# Altium integrated library Altium_CREATE_2026.IntLib: 26 symbols
Pins are listed as number, name and electrical type; pins without a type are passive.

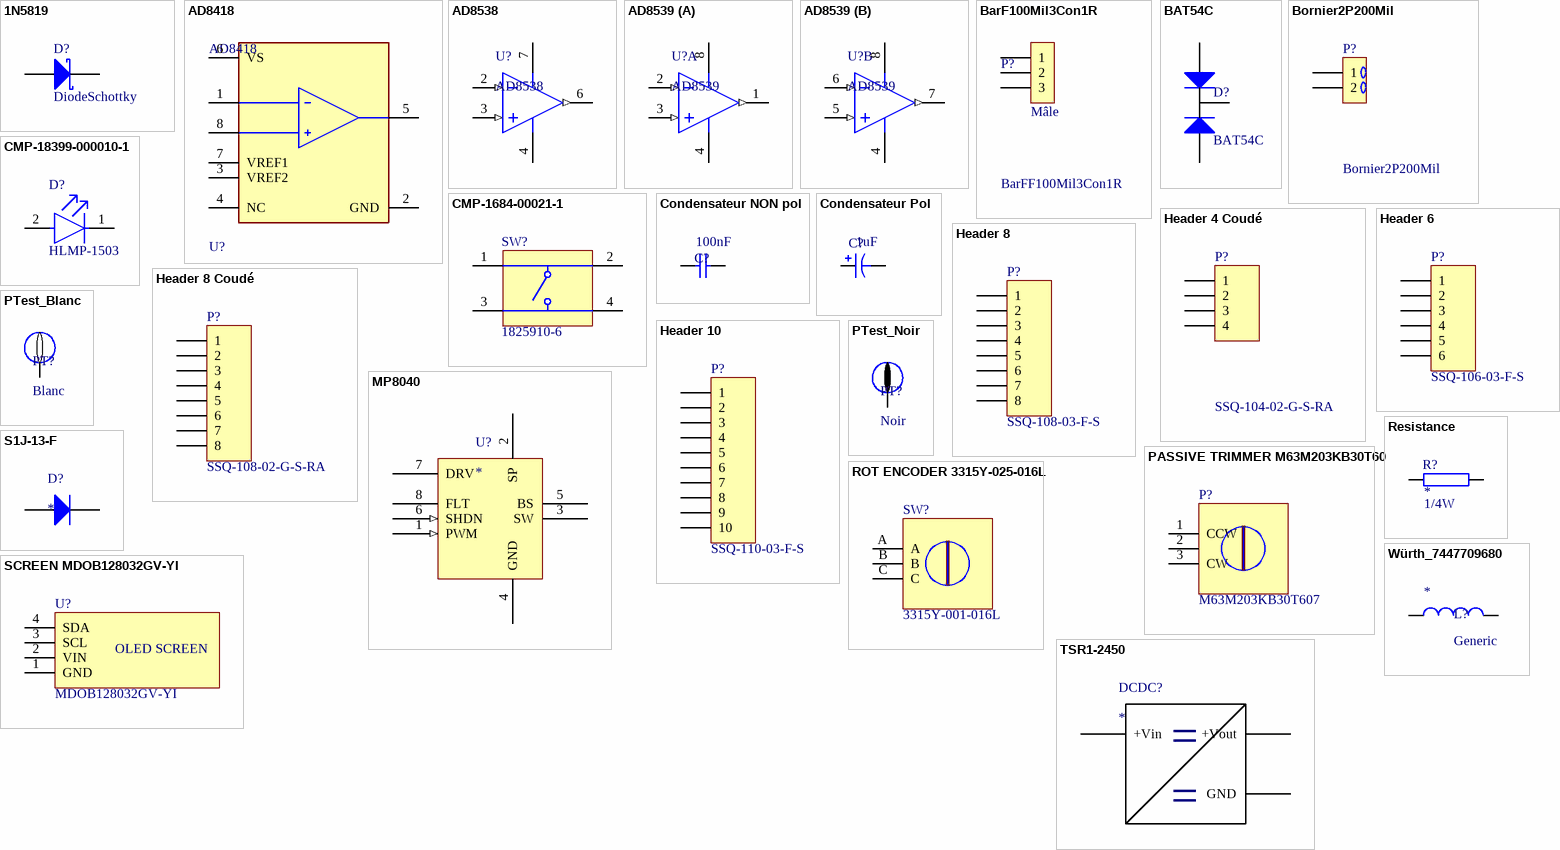
[diagram p0: symbols 1N5819 to Würth_7447709680]

## 1N5819
designator D?, comment DiodeSchottky
Low drop power Schottky rectifier; Published: 21-Mar-2003; LatestRevisionDate: 29-May-2009; LatestRevisionNote: IPC-7351 Footprint Added.; DatasheetVersion: Oct-1999; PackageVersion: Sep-2001; Publisher: Altium Limited
footprint DO-41 (Diode, Axial; Body 5.2 x 2.7 mm (LxDia. max), Lead Dia. 0.86 mm (max)); pin to pad 3>2
pins: 1 A, 3 K

## AD8418
designator U?
IC Current Sensor; Max Supply Voltage: 5.5V; Common Mode Rejection Ratio: 90dB; Min Dual Supply Voltage: 1.35V; Power Supply Rejection Ratio (PSRR): 80dB; Slew Rate: 1V/µs; Max Dual Supply Voltage: 2.75V; Operating Supply Current: 4.1mA; Min Supply Voltage: 2.7V; Input Bias Current: 130uA; Input Offset Voltage (Vos): 200uV; Number of Circuits: 1; -3db Bandwidth: 250kHz; Input Capacitance: 2pF; Max Operating Temperature: 125°C; Lead Free: Contains Lead; Case/Package: SOIC; Mount: Surface Mount; Min Operating Temperature: -40°C; Packaging: Rail/Tube; RoHS Compliant: Yes; Number of Pins: 8; Contact Plating: Tin
footprint SOIC-8-150 (SOIC 8)
pins: 1 -IN (hiz), 2 GND (power), 3 VREF2 (power), 4 NC, 5 OUT, 6 VS (power), 7 VREF1 (power), 8 +IN (hiz)

## AD8538
designator U?
Op Amp Single Precision Amplifier R-R I/O ±2.5V/5V 8-Pin SOIC N Tube; Generic Part Number: AD8539; Manufacturer: Analog Devices; PartNumber: AD8539ARZ-REEL; V Span Min: 2.7V; V Span Max: 5.5V; Input Offset Voltage: 5uV; Iq/Amp: 210uA; Amplifiers Per Package: 2; Slew Rate: 400mV/us; Small Signal Bandwidth: 430KHz; Input Bias Current: 15pA; PackageReference: R-8; ComponentLink3URL: http://www.analog.com/static/imported-files/packages/PKG_PDF/SOIC_Narrow%20(R)/R_8.pdf; PackageVersion: 060506-A; ComponentLink1Description: Manufacturer URL; Code_JEDEC: MS-012-AA; ComponentLink3Description: Package Specification; DatasheetVersion: Rev. A; PackageDescription: 8-Pin Standard Small Outline Package, Body 3.9 x 4.9 mm, Pitch 1.27 mm; ComponentLink2URL: http://www.analog.com/static/imported-files/data_sheets/AD8538_8539.pdf; ComponentLink2Description: Datasheet; ComponentLink1URL: http://www.analog.com/en/index.html; Mounting Technology: Surface Mount
footprint SOIC-8-150 (SOIC 8)
pins: 2 -IN (in), 3 +IN (in), 4 -V (power), 6 OUT (out), 7 +V (power)

## AD8539
designator U?
Double Channel Single-Supply Operation Operational Amplifier, 430 KHz BW, 400 mV/us SR, Industrial, 8-pin SOIC (R-8), Reel; Manufacturer: Analog Devices; PartNumber: AD8539ARZ-REEL; V Span Min: 2.7V; V Span Max: 5.5V; Input Offset Voltage: 5uV; Iq/Amp: 210uA; Amplifiers Per Package: 2; Small Signal Bandwidth: 430KHz; Input Bias Current: 15pA; PackageReference: R-8; ComponentLink3URL: http://www.analog.com/static/imported-files/packages/PKG_PDF/SOIC_Narrow%20(R)/R_8.pdf; PackageVersion: 060506-A; ComponentLink1Description: Manufacturer URL; Code_JEDEC: MS-012-AA; Generic Part Number: AD8539; ComponentLink3Description: Package Specification; DatasheetVersion: Rev. A; PackageDescription: 8-Pin Standard Small Outline Package, Body 3.9 x 4.9 mm, Pitch 1.27 mm; ComponentLink2URL: http://www.analog.com/static/imported-files/data_sheets/AD8538_8539.pdf; Slew Rate: 400mV/us; ComponentLink2Description: Datasheet; ComponentLink1URL: http://www.analog.com/en/index.html; Mounting Technology: Surface Mount
footprint SOIC-8-150 (SOIC 8)
pins on every part: 4 -V (power), 8 +V (power)
part A pins: 1 OUT A (out), 2 -IN A (in), 3 +IN A (in)
part B pins: 5 +IN B (in), 6 -IN B (in), 7 OUT B (out)

## BarF100Mil3Con1R
designator P?, comment BarFF100Mil3Con1R
Barrette femelle 100mil 3 PIN 1 rangée; LatestRevisionDate: 17-Jul-2002; LatestRevisionNote: Re-released for DXP Platform.; Publisher: Altium Limited
signal-integrity model Connector
footprint 3PINF100 (Connector; Header; 3 Position)
pins: 1, 2, 3
text: Mâle

## BAT54C
designator D?
Double Small signal Schottky diodes
footprint SOT-23-3 (SOT23, 6-Leads, Body 2.9x1.7mm, Pitch 0.95mm, Lead Span 2.8mm, IPC Medium Density)
pins: 1 A1, 2 A2, 3 K

## Bornier2P200Mil
designator P?
Bornier 2P 200mil; LatestRevisionDate: 17-Jul-2002; LatestRevisionNote: Re-released for DXP Platform.; Publisher: Altium Limited; Supplier 1: Farnell; Supplier Part Number 1: 2396250
footprint BORN2PIN200MIL (Bornier; Header; 2 Position)
pins: 1, 2

## CMP-1684-00021-1
designator SW?, comment 1825910-6
SWITCH TACTILE SPST-NO 0.05A 24V; Manufacturer: TE Connectivity; Maximum Contact Resistance: 100mOhm; Mechanical Life: 100000Cycles; Bushing Type: Unthreaded; Switch Configuration: OFF(ON); Contact Rating @ Voltage: 0.05A@24VDC; Actuator Color: Black; Body Orientation: Straight; Function: MomentaryContact; Illumination: N/R; Actuator Style: RoundButton; Actuator Material: PolybutyleneTerephthalate; Dielectric Strength: 500VAC; Pole Throw Configuration: SPST; Actuator Length: 1.4mm; Product Weight: N/A; Contact Material: CopperAlloy; Housing Material: N/A; Terminal Type: PCPins; Minimum Insulation Resistance: 100MOhm; Maximum DC Voltage Rating: 24V; Package Description: 4-Pin Through Hole Device, Body 5.99 x 5.99 mm, Pitch 6.5 mm; Part No: 1825910-6; Package Reference: THD; Base Material: N/A; Manufacturer URL: http://www.te.com; Contact Plating: Silver; RoHS: Yes; Datasheet Version: Rev. C9; Electrical Life: 100000Cycles; Maximum AC Voltage Rating: N/A; Thread Size: N/R; Operating Temperature: -35to85C; Mounting: ThroughHole; Dimension: 5.99x5mm; Datasheet URL: http://www.te.com/commerce/DocumentDelivery/DDEController?Action=showdoc&DocId=Customer+Drawing%7F1825910%7FC9%7Fpdf%7FEnglish%7FENG_CD_1825910_C9.pdf%7F1825910-6; Family: 1825910; Seal Location: N/A; Seal Description: N/A; Packaging: N/A
footprint TECO-1825910-6_V
pins: 1, 2, 3, 4

## CMP-18399-000010-1
designator D?, comment HLMP-1503
LED GREEN DIFFUSED T-1 T/H; Manufacturer: Broadcom; Reverse Voltage: 5V; Wavelength: 569nm; Forward Voltage: 2.1V; Led Orientation: Straight; Viewing Angle: 60°; Max Junction Temp: +110°C; Peak Emmision Wavelength: 565nm; Luminous Intensity: 1mcd; Standoff Height: 0.88mm; Forward Current: 10mA; Mouser Description: LED; Green; 1mcd; 0.115In.Dia.; T-1; 565nm; 25mA; 2.1V; 5V; GaP; -20degC; 100deg; ComponentLink2Description: Datasheet; Digikey Description: LED GREEN DIFFUSED T-1 T/H; Device Class L1: Optoelectronics; Device Class L3: unset; Automotive: No; Device Class L2: LEDs; Manufacturer Part Number: HLMP-1503; Category: Diode; Temperature Range Low: -20°C; Height: 6.35mm; RoHS: TRUE; Octopart: https://octopart.com/hlmp-1503-broadcom-71130371; Temperature: -20°C to +100°C; Lead Free: Yes; ComponentLink2URL: https://docs.broadcom.com/docs/AV02-1555EN; Package: HLMP-1503; Colour: Green; Temperature Range High: +100°C
footprint FP-HLMP-1503-MFG
pins: 1 C, 2 A

## Condensateur NON pol
designator C?  value 100nF  (hidden comment: Condensateur NON pol)
Published: 8-Jun-2000; LatestRevisionDate: 29-May-2009; LatestRevisionNote: IPC-7351 Footprint Added.; PackageReference: C1206; Publisher: Altium Limited; PackageDescription: Chip Capacitor
footprint 1206_C
footprint CAPRAD09
footprint CAPRAD06
footprint CAPRAD02
footprint CAPRAD6.4Disq11.7
footprint 0603_C
footprint CAPRADP200l100
footprint CAPDISQ5.08
pins: 1, 2

## Condensateur Pol
designator C?  value 1uF  (hidden comment: Condensateur Pol)
Published: 8-Jun-2000; LatestRevisionDate: 17-Jul-2002; LatestRevisionNote: Re-released for DXP Platform.; PackageReference: POLAR0.8; Publisher: Altium Limited; PackageDescription: Polarized Capacitor; 2 Leads
footprint CAPRAD6.3diax12 (Condensateur polarisé diamètre 6.3mm hauteur 12mm)
footprint CAPRAD10diax9.5 (Condensateur polarisé diamètre 10mm hauteur 9.5mm)
pins: 1, 2
1 alternate drawing of the same symbol

## Header 4 Coudé
designator P?, comment SSQ-104-02-G-S-RA
Header 4 Coudé; LatestRevisionDate: 17-Jul-2002; LatestRevisionNote: Re-released for DXP Platform.; Publisher: Altium Limited
footprint ARDUINO HDR1X4 - Coudé
pins: 1, 2, 3, 4

## Header 6
designator P?, comment SSQ-106-03-F-S
CONN RCPT 6POS 0.1 GOLD PCB; LatestRevisionDate: 17-Jul-2002; LatestRevisionNote: Re-released for DXP Platform.; Publisher: Altium Limited
footprint HDR1X6 (Connector; Header; 6 Position)
signal-integrity model Connector
footprint ARDUINO HDR1X6
pins: 1, 2, 3, 4, 5, 6

## Header 8
designator P?, comment SSQ-108-03-F-S
CONN RCPT 8POS 0.1 GOLD PCB; LatestRevisionDate: 17-Jul-2002; LatestRevisionNote: Re-released for DXP Platform.; Publisher: Altium Limited
footprint HDR1X8 (Connector; Header; 8 Position)
signal-integrity model Connector
footprint ARDUINO HDR1X8
pins: 1, 2, 3, 4, 5, 6, 7, 8

## Header 8 Coudé
designator P?, comment SSQ-108-02-G-S-RA
Header 8 Coudé; LatestRevisionDate: 17-Jul-2002; LatestRevisionNote: Re-released for DXP Platform.; Publisher: Altium Limited
footprint ARDUINO HDR1X8 - Coudé
pins: 1, 2, 3, 4, 5, 6, 7, 8

## Header 10
designator P?, comment SSQ-110-03-F-S
CONN RCPT 10POS 0.1 GOLD PCB; LatestRevisionDate: 17-Jul-2002; LatestRevisionNote: Re-released for DXP Platform.; Publisher: Altium Limited
footprint HDR1X10 (Connector; Header; 10 Position)
signal-integrity model Connector
footprint ARDUINO HDR1X10
pins: 1, 2, 3, 4, 5, 6, 7, 8, 9, 10

## MP8040
designator U?
9A, 24V Integrated Half-Bridge
footprint SOIC-8-150 (SOIC 8)
pins: 1 PWM (in), 2 SP (power), 3 SW (power), 4 GND (power), 5 BS, 6 SHDN (in), 7 DRV (power), 8 FLT (oc)

## PASSIVE TRIMMER M63M203KB30T607
designator P?, comment M63M203KB30T607
TRIMMER 20K OHM 0.5W PC PIN SIDE
footprint FP-M63M-MFG
pins: 1 CCW, 2, 3 CW

## PTest_Blanc
designator PT?, comment Blanc
Point de test PCB, Blanc, Montage traversant, 1.32 mm; Supplier 1: Farnell; Supplier Part Number 1: 8731225
footprint PTest1.32mm
pins: 1

## PTest_Noir
designator PT?, comment Noir
Point de test PCB, Noir, Montage traversant, 1.32 mm; Supplier 1: Farnell; Supplier Part Number 1: 8731250
footprint PTest1.32mm
pins: 1

## Resistance
designator R?  Puissance: 1/4W  (hidden comment: Resistance)
Resistor; Published: 8-Jun-2000; LatestRevisionDate: 29-May-2009; LatestRevisionNote: IPC-7351 Footprint Added.; PackageReference: J1-0603; Publisher: Altium Limited; PackageDescription: Chip Resistor; Value: *
footprint 1206_R
pins: 1, 2

## ROT ENCODER 3315Y-025-016L
designator SW?, comment 3315Y-001-016L
ROTARY ENCODER MECHANICAL 16PPR
footprint ROTARY
pins: A, B, C

## S1J-13-F
designator D?
Diode standard de redressement 600V 1A; Supplier 1: RSComponents; Supplier 2: Farnell; Supplier Part Number 1: 708-2194; Supplier Part Number 2: 1773481
footprint SMA (DO-214AC)
pins: 1 A, 2 K

## SCREEN MDOB128032GV-YI
designator U?, comment MDOB128032GV-YI
GRAPHIC OLED 128x32 YELLOW 3V I2C
footprint MDOB128032GV-YI
pins: 1 GND, 2 VIN, 3 SCL, 4 SDA
text: OLED SCREEN

## TSR1-2450
designator DCDC?
DC/DC 6,5/36 -> 5V 1A; Supplier 1: RSComponents; Supplier Part Number 1: 9068484
footprint TSR1Serie-1A
pins: 1 +Vin (power), 2 GND (power), 3 +Vout (power)

## Würth_7447709680
designator L?, comment Generic
Inductance 7447709680 Würth; Code_IEC: 1005; Published: 8-Jun-2000; LatestRevisionDate: 29-May-2009; LatestRevisionNote: IPC-7351 Footprint Added.; PackageReference: 0402-A; Publisher: Altium Limited; PackageDescription: Chip Inductor; Code_JEITA: 0402; Supplier 1: RSComponents; Supplier Part Number 1: 814-2660P; Value: *
footprint 7447709680
pins: 1, 2